# Altium schematic symbol library schlib_STD.SchLib: 26 symbols
Pins are listed as number, name and electrical type; pins without a type are passive.

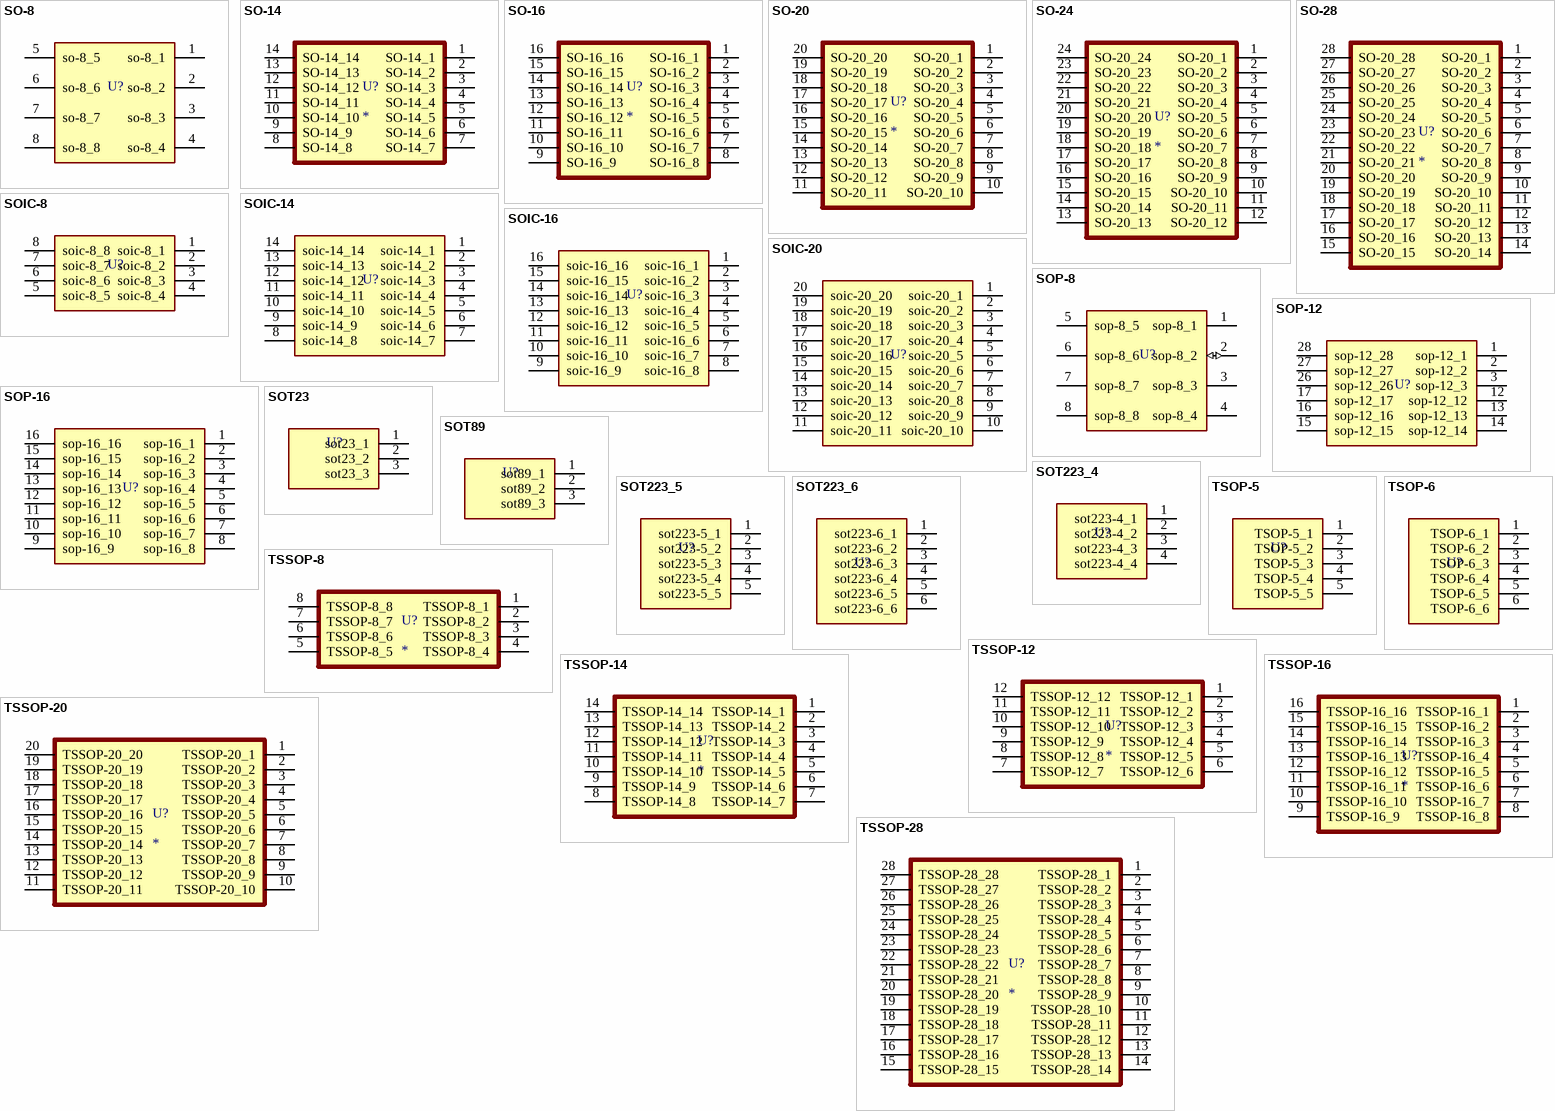
[diagram p0: symbols SO-8 to TSSOP-28]

## SO-8
designator U?
MF: IST; MP: TSIC 306 SOP-8; Value: *; Package: SOP-8 IST; SnapEDA_Link: https://www.snapeda.com/parts/TSIC%20306%20SOP-8/IST/view-part/564164/?ref=snap; Price: None; Availability: Unavailable
footprint SO-8
pins: 1 so-8_1 (power), 2 so-8_2 (power), 3 so-8_3 (power), 4 so-8_4 (power), 5 so-8_5 (power), 6 so-8_6 (power), 7 so-8_7 (power), 8 so-8_8 (power)

## SO-14
designator U?
MF: Texas Instruments; MP: TXB0104PWRG4; Value: *; Check_prices: https://www.snapeda.com/parts/TXB0104PWRG4/Texas+Instruments/view-part/?ref=eda; SnapEDA_Link: https://www.snapeda.com/parts/TXB0104PWRG4/Texas+Instruments/view-part/?ref=snap; Availability: In Stock; Purchase-URL: https://pricing.snapeda.com/search/part/TXB0104PWRG4/?ref=eda; Package: TSSOP-14 Texas Instruments; Price: None
footprint SO-14
pins: 1 SO-14_1, 2 SO-14_2, 3 SO-14_3, 4 SO-14_4, 5 SO-14_5, 6 SO-14_6, 7 SO-14_7, 8 SO-14_8, 9 SO-14_9, 10 SO-14_10, 11 SO-14_11, 12 SO-14_12, 13 SO-14_13, 14 SO-14_14

## SO-16
designator U?
MF: Texas Instruments; MP: TXB0104PWRG4; Value: *; Check_prices: https://www.snapeda.com/parts/TXB0104PWRG4/Texas+Instruments/view-part/?ref=eda; SnapEDA_Link: https://www.snapeda.com/parts/TXB0104PWRG4/Texas+Instruments/view-part/?ref=snap; Availability: In Stock; Purchase-URL: https://pricing.snapeda.com/search/part/TXB0104PWRG4/?ref=eda; Package: TSSOP-14 Texas Instruments; Price: None
footprint SO-16
pins: 1 SO-16_1, 2 SO-16_2, 3 SO-16_3, 4 SO-16_4, 5 SO-16_5, 6 SO-16_6, 7 SO-16_7, 8 SO-16_8, 9 SO-16_9, 10 SO-16_10, 11 SO-16_11, 12 SO-16_12, 13 SO-16_13, 14 SO-16_14, 15 SO-16_15, 16 SO-16_16

## SO-20
designator U?
MF: Texas Instruments; MP: TXB0104PWRG4; Value: *; Check_prices: https://www.snapeda.com/parts/TXB0104PWRG4/Texas+Instruments/view-part/?ref=eda; SnapEDA_Link: https://www.snapeda.com/parts/TXB0104PWRG4/Texas+Instruments/view-part/?ref=snap; Availability: In Stock; Purchase-URL: https://pricing.snapeda.com/search/part/TXB0104PWRG4/?ref=eda; Package: TSSOP-14 Texas Instruments; Price: None
footprint SO-20
pins: 1 SO-20_1, 2 SO-20_2, 3 SO-20_3, 4 SO-20_4, 5 SO-20_5, 6 SO-20_6, 7 SO-20_7, 8 SO-20_8, 9 SO-20_9, 10 SO-20_10, 11 SO-20_11, 12 SO-20_12, 13 SO-20_13, 14 SO-20_14, 15 SO-20_15, 16 SO-20_16, 17 SO-20_17, 18 SO-20_18, 19 SO-20_19, 20 SO-20_20

## SO-24
designator U?
MF: Texas Instruments; MP: TXB0104PWRG4; Value: *; Check_prices: https://www.snapeda.com/parts/TXB0104PWRG4/Texas+Instruments/view-part/?ref=eda; SnapEDA_Link: https://www.snapeda.com/parts/TXB0104PWRG4/Texas+Instruments/view-part/?ref=snap; Availability: In Stock; Purchase-URL: https://pricing.snapeda.com/search/part/TXB0104PWRG4/?ref=eda; Package: TSSOP-14 Texas Instruments; Price: None
footprint SO-24
pins: 1 SO-20_1, 2 SO-20_2, 3 SO-20_3, 4 SO-20_4, 5 SO-20_5, 6 SO-20_6, 7 SO-20_7, 8 SO-20_8, 9 SO-20_9, 10 SO-20_10, 11 SO-20_11, 12 SO-20_12, 13 SO-20_13, 14 SO-20_14, 15 SO-20_15, 16 SO-20_16, 17 SO-20_17, 18 SO-20_18, 19 SO-20_19, 20 SO-20_20, 21 SO-20_21, 22 SO-20_22, 23 SO-20_23, 24 SO-20_24

## SO-28
designator U?
MF: Texas Instruments; MP: TXB0104PWRG4; Value: *; Check_prices: https://www.snapeda.com/parts/TXB0104PWRG4/Texas+Instruments/view-part/?ref=eda; SnapEDA_Link: https://www.snapeda.com/parts/TXB0104PWRG4/Texas+Instruments/view-part/?ref=snap; Availability: In Stock; Purchase-URL: https://pricing.snapeda.com/search/part/TXB0104PWRG4/?ref=eda; Package: TSSOP-14 Texas Instruments; Price: None
footprint SO-28
pins: 1 SO-20_1, 2 SO-20_2, 3 SO-20_3, 4 SO-20_4, 5 SO-20_5, 6 SO-20_6, 7 SO-20_7, 8 SO-20_8, 9 SO-20_9, 10 SO-20_10, 11 SO-20_11, 12 SO-20_12, 13 SO-20_13, 14 SO-20_14, 15 SO-20_15, 16 SO-20_16, 17 SO-20_17, 18 SO-20_18, 19 SO-20_19, 20 SO-20_20, 21 SO-20_21, 22 SO-20_22, 23 SO-20_23, 24 SO-20_24, 25 SO-20_25, 26 SO-20_26, 27 SO-20_27, 28 SO-20_28

## SOIC-8
designator U?
MF: IST; MP: TSIC 306 SOP-8; Value: *; Package: SOP-8 IST; SnapEDA_Link: https://www.snapeda.com/parts/TSIC%20306%20SOP-8/IST/view-part/564164/?ref=snap; Price: None; Availability: Unavailable
footprint SOIC-8
pins: 1 soic-8_1 (power), 2 soic-8_2 (power), 3 soic-8_3 (power), 4 soic-8_4 (power), 5 soic-8_5 (power), 6 soic-8_6 (power), 7 soic-8_7 (power), 8 soic-8_8 (power)

## SOIC-14
designator U?
MF: IST; MP: TSIC 306 SOP-8; Value: *; Package: SOP-8 IST; SnapEDA_Link: https://www.snapeda.com/parts/TSIC%20306%20SOP-8/IST/view-part/564164/?ref=snap; Price: None; Availability: Unavailable
footprint SOIC-14
pins: 1 soic-14_1 (power), 2 soic-14_2 (power), 3 soic-14_3 (power), 4 soic-14_4 (power), 5 soic-14_5 (power), 6 soic-14_6 (power), 7 soic-14_7 (power), 8 soic-14_8 (power), 9 soic-14_9 (power), 10 soic-14_10 (power), 11 soic-14_11 (power), 12 soic-14_12 (power), 13 soic-14_13 (power), 14 soic-14_14 (power)

## SOIC-16
designator U?
MF: IST; MP: TSIC 306 SOP-8; Value: *; Package: SOP-8 IST; SnapEDA_Link: https://www.snapeda.com/parts/TSIC%20306%20SOP-8/IST/view-part/564164/?ref=snap; Price: None; Availability: Unavailable
footprint SOIC-16
pins: 1 soic-16_1 (power), 2 soic-16_2 (power), 3 soic-16_3 (power), 4 soic-16_4 (power), 5 soic-16_5 (power), 6 soic-16_6 (power), 7 soic-16_7 (power), 8 soic-16_8 (power), 9 soic-16_9 (power), 10 soic-16_10 (power), 11 soic-16_11 (power), 12 soic-16_12 (power), 13 soic-16_13 (power), 14 soic-16_14 (power), 15 soic-16_15 (power), 16 soic-16_16 (power)

## SOIC-20
designator U?
MF: IST; MP: TSIC 306 SOP-8; Value: *; Package: SOP-8 IST; SnapEDA_Link: https://www.snapeda.com/parts/TSIC%20306%20SOP-8/IST/view-part/564164/?ref=snap; Price: None; Availability: Unavailable
footprint SOIC-20
pins: 1 soic-20_1 (power), 2 soic-20_2 (power), 3 soic-20_3 (power), 4 soic-20_4 (power), 5 soic-20_5 (power), 6 soic-20_6 (power), 7 soic-20_7 (power), 8 soic-20_8 (power), 9 soic-20_9 (power), 10 soic-20_10 (power), 11 soic-20_11 (power), 12 soic-20_12 (power), 13 soic-20_13 (power), 14 soic-20_14 (power), 15 soic-20_15 (power), 16 soic-20_16 (power), 17 soic-20_17 (power), 18 soic-20_18 (power), 19 soic-20_19 (power), 20 soic-20_20 (power)

## SOP-8
designator U?
MF: IST; MP: TSIC 306 SOP-8; Value: *; Package: SOP-8 IST; SnapEDA_Link: https://www.snapeda.com/parts/TSIC%20306%20SOP-8/IST/view-part/564164/?ref=snap; Price: None; Availability: Unavailable
footprint SOP-8
pins: 1 sop-8_1 (power), 2 sop-8_2 (io), 3 sop-8_3, 4 sop-8_4 (power), 5 sop-8_5, 6 sop-8_6, 7 sop-8_7, 8 sop-8_8

## SOP-12
designator U?
MF: IST; MP: TSIC 306 SOP-8; Value: *; Package: SOP-8 IST; SnapEDA_Link: https://www.snapeda.com/parts/TSIC%20306%20SOP-8/IST/view-part/564164/?ref=snap; Price: None; Availability: Unavailable
footprint SOP-12
pins: 1 sop-12_1 (power), 2 sop-12_2 (power), 3 sop-12_3 (power), 12 sop-12_12 (power), 13 sop-12_13 (power), 14 sop-12_14 (power), 15 sop-12_15 (power), 16 sop-12_16 (power), 17 sop-12_17 (power), 26 sop-12_26 (power), 27 sop-12_27 (power), 28 sop-12_28 (power)

## SOP-16
designator U?
MF: IST; MP: TSIC 306 SOP-8; Value: *; Package: SOP-8 IST; SnapEDA_Link: https://www.snapeda.com/parts/TSIC%20306%20SOP-8/IST/view-part/564164/?ref=snap; Price: None; Availability: Unavailable
footprint SOP-16
pins: 1 sop-16_1 (power), 2 sop-16_2 (power), 3 sop-16_3 (power), 4 sop-16_4 (power), 5 sop-16_5 (power), 6 sop-16_6 (power), 7 sop-16_7 (power), 8 sop-16_8 (power), 9 sop-16_9 (power), 10 sop-16_10 (power), 11 sop-16_11 (power), 12 sop-16_12 (power), 13 sop-16_13 (power), 14 sop-16_14 (power), 15 sop-16_15 (power), 16 sop-16_16 (power)

## SOT23
designator U?
MF: IST; MP: TSIC 306 SOP-8; Value: *; Package: SOP-8 IST; SnapEDA_Link: https://www.snapeda.com/parts/TSIC%20306%20SOP-8/IST/view-part/564164/?ref=snap; Price: None; Availability: Unavailable
footprint SOT23-R
pins: 1 sot23_1 (power), 2 sot23_2 (power), 3 sot23_3 (power)

## SOT89
designator U?
MF: IST; MP: TSIC 306 SOP-8; Value: *; Package: SOP-8 IST; SnapEDA_Link: https://www.snapeda.com/parts/TSIC%20306%20SOP-8/IST/view-part/564164/?ref=snap; Price: None; Availability: Unavailable
footprint SOT89
pins: 1 sot89_1 (power), 2 sot89_2 (power), 3 sot89_3 (power)

## SOT223_4
designator U?
MF: IST; MP: TSIC 306 SOP-8; Value: *; Package: SOP-8 IST; SnapEDA_Link: https://www.snapeda.com/parts/TSIC%20306%20SOP-8/IST/view-part/564164/?ref=snap; Price: None; Availability: Unavailable
footprint SOT223-4
pins: 1 sot223-4_1 (power), 2 sot223-4_2 (power), 3 sot223-4_3 (power), 4 sot223-4_4 (power)

## SOT223_5
designator U?
MF: IST; MP: TSIC 306 SOP-8; Value: *; Package: SOP-8 IST; SnapEDA_Link: https://www.snapeda.com/parts/TSIC%20306%20SOP-8/IST/view-part/564164/?ref=snap; Price: None; Availability: Unavailable
footprint SOT223-5
pins: 1 sot223-5_1 (power), 2 sot223-5_2 (power), 3 sot223-5_3 (power), 4 sot223-5_4 (power), 5 sot223-5_5 (power)

## SOT223_6
designator U?
MF: IST; MP: TSIC 306 SOP-8; Value: *; Package: SOP-8 IST; SnapEDA_Link: https://www.snapeda.com/parts/TSIC%20306%20SOP-8/IST/view-part/564164/?ref=snap; Price: None; Availability: Unavailable
footprint SOT223-6
pins: 1 sot223-6_1 (power), 2 sot223-6_2 (power), 3 sot223-6_3 (power), 4 sot223-6_4 (power), 5 sot223-6_5 (power), 6 sot223-6_6 (power)

## TSOP-5
designator U?
MF: IST; MP: TSIC 306 SOP-8; Value: *; Package: SOP-8 IST; SnapEDA_Link: https://www.snapeda.com/parts/TSIC%20306%20SOP-8/IST/view-part/564164/?ref=snap; Price: None; Availability: Unavailable
footprint TSOP-5
pins: 1 TSOP-5_1 (power), 2 TSOP-5_2 (power), 3 TSOP-5_3 (power), 4 TSOP-5_4 (power), 5 TSOP-5_5 (power)

## TSOP-6
designator U?
MF: IST; MP: TSIC 306 SOP-8; Value: *; Package: SOP-8 IST; SnapEDA_Link: https://www.snapeda.com/parts/TSIC%20306%20SOP-8/IST/view-part/564164/?ref=snap; Price: None; Availability: Unavailable
footprint TSOP-6
pins: 1 TSOP-6_1 (power), 2 TSOP-6_2 (power), 3 TSOP-6_3 (power), 4 TSOP-6_4 (power), 5 TSOP-6_5 (power), 6 TSOP-6_6 (power)

## TSSOP-8
designator U?
MF: Texas Instruments; MP: TXB0104PWRG4; Value: *; Check_prices: https://www.snapeda.com/parts/TXB0104PWRG4/Texas+Instruments/view-part/?ref=eda; SnapEDA_Link: https://www.snapeda.com/parts/TXB0104PWRG4/Texas+Instruments/view-part/?ref=snap; Availability: In Stock; Purchase-URL: https://pricing.snapeda.com/search/part/TXB0104PWRG4/?ref=eda; Package: TSSOP-14 Texas Instruments; Price: None
footprint TSSOP-8
pins: 1 TSSOP-8_1, 2 TSSOP-8_2, 3 TSSOP-8_3, 4 TSSOP-8_4, 5 TSSOP-8_5, 6 TSSOP-8_6, 7 TSSOP-8_7, 8 TSSOP-8_8

## TSSOP-12
designator U?
MF: Texas Instruments; MP: TXB0104PWRG4; Value: *; Check_prices: https://www.snapeda.com/parts/TXB0104PWRG4/Texas+Instruments/view-part/?ref=eda; SnapEDA_Link: https://www.snapeda.com/parts/TXB0104PWRG4/Texas+Instruments/view-part/?ref=snap; Availability: In Stock; Purchase-URL: https://pricing.snapeda.com/search/part/TXB0104PWRG4/?ref=eda; Package: TSSOP-14 Texas Instruments; Price: None
footprint TSSOP-12
pins: 1 TSSOP-12_1, 2 TSSOP-12_2, 3 TSSOP-12_3, 4 TSSOP-12_4, 5 TSSOP-12_5, 6 TSSOP-12_6, 7 TSSOP-12_7, 8 TSSOP-12_8, 9 TSSOP-12_9, 10 TSSOP-12_10, 11 TSSOP-12_11, 12 TSSOP-12_12

## TSSOP-14
designator U?
MF: Texas Instruments; MP: TXB0104PWRG4; Value: *; Check_prices: https://www.snapeda.com/parts/TXB0104PWRG4/Texas+Instruments/view-part/?ref=eda; SnapEDA_Link: https://www.snapeda.com/parts/TXB0104PWRG4/Texas+Instruments/view-part/?ref=snap; Availability: In Stock; Purchase-URL: https://pricing.snapeda.com/search/part/TXB0104PWRG4/?ref=eda; Package: TSSOP-14 Texas Instruments; Price: None
footprint TSSOP-14
pins: 1 TSSOP-14_1, 2 TSSOP-14_2, 3 TSSOP-14_3, 4 TSSOP-14_4, 5 TSSOP-14_5, 6 TSSOP-14_6, 7 TSSOP-14_7, 8 TSSOP-14_8, 9 TSSOP-14_9, 10 TSSOP-14_10, 11 TSSOP-14_11, 12 TSSOP-14_12, 13 TSSOP-14_13, 14 TSSOP-14_14

## TSSOP-16
designator U?
MF: Texas Instruments; MP: TXB0104PWRG4; Value: *; Check_prices: https://www.snapeda.com/parts/TXB0104PWRG4/Texas+Instruments/view-part/?ref=eda; SnapEDA_Link: https://www.snapeda.com/parts/TXB0104PWRG4/Texas+Instruments/view-part/?ref=snap; Availability: In Stock; Purchase-URL: https://pricing.snapeda.com/search/part/TXB0104PWRG4/?ref=eda; Package: TSSOP-14 Texas Instruments; Price: None
footprint TSSOP-16
pins: 1 TSSOP-16_1, 2 TSSOP-16_2, 3 TSSOP-16_3, 4 TSSOP-16_4, 5 TSSOP-16_5, 6 TSSOP-16_6, 7 TSSOP-16_7, 8 TSSOP-16_8, 9 TSSOP-16_9, 10 TSSOP-16_10, 11 TSSOP-16_11, 12 TSSOP-16_12, 13 TSSOP-16_13, 14 TSSOP-16_14, 15 TSSOP-16_15, 16 TSSOP-16_16

## TSSOP-20
designator U?
MF: Texas Instruments; MP: TXB0104PWRG4; Value: *; Check_prices: https://www.snapeda.com/parts/TXB0104PWRG4/Texas+Instruments/view-part/?ref=eda; SnapEDA_Link: https://www.snapeda.com/parts/TXB0104PWRG4/Texas+Instruments/view-part/?ref=snap; Availability: In Stock; Purchase-URL: https://pricing.snapeda.com/search/part/TXB0104PWRG4/?ref=eda; Package: TSSOP-14 Texas Instruments; Price: None
footprint TSSOP-20
pins: 1 TSSOP-20_1, 2 TSSOP-20_2, 3 TSSOP-20_3, 4 TSSOP-20_4, 5 TSSOP-20_5, 6 TSSOP-20_6, 7 TSSOP-20_7, 8 TSSOP-20_8, 9 TSSOP-20_9, 10 TSSOP-20_10, 11 TSSOP-20_11, 12 TSSOP-20_12, 13 TSSOP-20_13, 14 TSSOP-20_14, 15 TSSOP-20_15, 16 TSSOP-20_16, 17 TSSOP-20_17, 18 TSSOP-20_18, 19 TSSOP-20_19, 20 TSSOP-20_20

## TSSOP-28
designator U?
MF: Texas Instruments; MP: TXB0104PWRG4; Value: *; Check_prices: https://www.snapeda.com/parts/TXB0104PWRG4/Texas+Instruments/view-part/?ref=eda; SnapEDA_Link: https://www.snapeda.com/parts/TXB0104PWRG4/Texas+Instruments/view-part/?ref=snap; Availability: In Stock; Purchase-URL: https://pricing.snapeda.com/search/part/TXB0104PWRG4/?ref=eda; Package: TSSOP-14 Texas Instruments; Price: None
footprint TSSOP-28
pins: 1 TSSOP-28_1, 2 TSSOP-28_2, 3 TSSOP-28_3, 4 TSSOP-28_4, 5 TSSOP-28_5, 6 TSSOP-28_6, 7 TSSOP-28_7, 8 TSSOP-28_8, 9 TSSOP-28_9, 10 TSSOP-28_10, 11 TSSOP-28_11, 12 TSSOP-28_12, 13 TSSOP-28_13, 14 TSSOP-28_14, 15 TSSOP-28_15, 16 TSSOP-28_16, 17 TSSOP-28_17, 18 TSSOP-28_18, 19 TSSOP-28_19, 20 TSSOP-28_20, 21 TSSOP-28_21, 22 TSSOP-28_22, 23 TSSOP-28_23, 24 TSSOP-28_24, 25 TSSOP-28_25, 26 TSSOP-28_26, 27 TSSOP-28_27, 28 TSSOP-28_28